# Altium schematic symbol library SCH - POWER - MODULE - PDSE1-S24-S12-M-TR.Schlib: 1 symbol
Pins are listed as number, name and electrical type; pins without a type are passive.

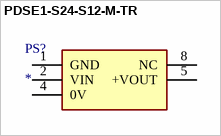
[diagram p0: symbol PDSE1-S24-S12-M-TR]

## PDSE1-S24-S12-M-TR
designator PS?
Power Supply
pins: 1 GND, 2 VIN, 4 0V, 5 +VOUT, 8 NC